# Altium schematic symbol library PE42522C-X.Schlib: 1 symbol
Pins are listed as number, name and electrical type; pins without a type are passive.

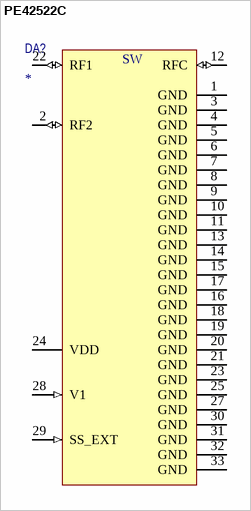
[diagram p0: symbol PE42522C]

## PE42522C
designator DA?
UltraCMOS SP2T RF Switch 9 kHz–26.5 GHz
pins: 1 GND (power) "Ground", 2 RF2 (io) "RF port 2", 3 GND (power) "Ground", 4 GND (power) "Ground", 5 GND (power) "Ground", 6 GND (power) "Ground", 7 GND (power) "RF port 4", 8 GND (power) "Ground", 9 GND (power) "Ground", 10 GND (power) "Ground", 11 GND (power) "Ground", 12 RFC (io) "RF common", 13 GND (power) "Ground", 14 GND (power) "Ground", 15 GND (power) "Ground", 16 GND (power) "Ground", 17 GND (power) "RF port 3", 18 GND (power) "Ground", 19 GND (power) "Ground", 20 GND (power) "Ground", 21 GND (power) "Ground", 22 RF1 (io) "RF port 1", 23 GND (power) "Ground", 24 VDD (power) "Supply voltage (nominal 3.3V)", 25 GND (power) "Ground", 27 GND (power) "Digital control logic input 2", 28 V1 (in) "Digital control logic input 1", 29 SS_EXT (in) "External VSS negative voltage control", 30 GND (power) "Exposed pad: Ground for proper operation", 31 GND (power) "Exposed pad: Ground for proper operation", 32 GND (power) "Exposed pad: Ground for proper operation", 33 GND (power) "Exposed pad: Ground for proper operation"
text: SW